# Altium footprint library PcbLib1.PcbLib: 4 footprints
Each footprint in its own frame and in the unit in brackets; x right, y up, seen from the top. Pads: shape width x height; smd on the part's side, far side on the other; paste and mask are expansions set on the pad; w line width, h text height; cw(c..) or ccw(c..) is an arc to the next point about the centre after c.
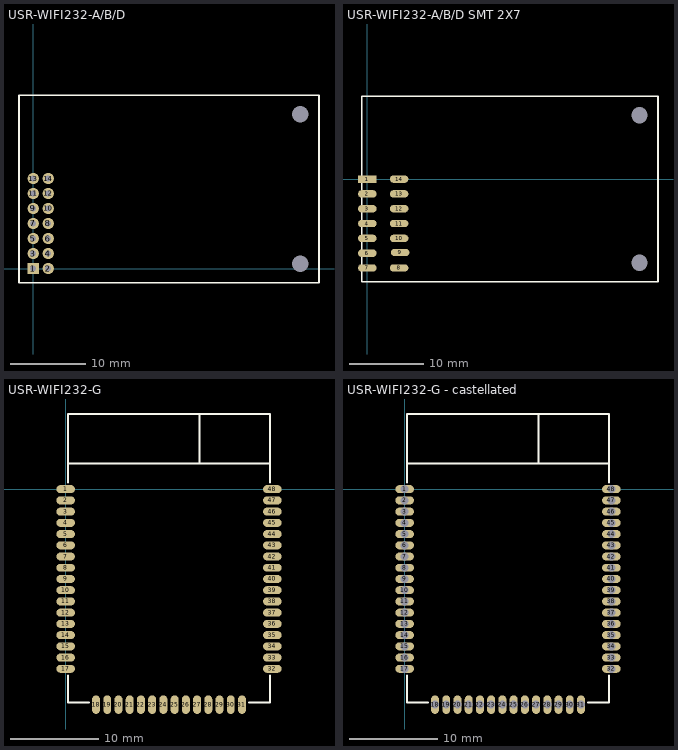
[diagram p0: the footprints below, top view; thin cyan lines are the x and y axes]

## USR-WIFI232-A/B/D [mm]
pads (16):
  round 0 hole 2.2: 0(35.6,0.65) 0(35.6,20.55)
  rect 1.5x1.5 hole 0.8: 1(0,0)
  round 1.5 hole 0.8: 2(2,0) 3(0,2) 4(2,2) 5(0,4) 6(2,4) 7(0,6) 8(2,6) 9(0,8) 10(2,8) 11(0,10) 12(2,10) 13(0,12) 14(2,12)
Top Overlay:
  lines w0.203: -1.9,-1.9 38.1,-1.9 38.1,23.1 -1.9,23.1 -1.9,-1.9

## USR-WIFI232-A/B/D SMT 2X7 [mm]
pads (16):
  round 0 hole 2.2: 0(36.743,-11.288) 0(36.743,8.612)
  rect 2.5x1 smd: 1(0,0)
  oval 2.5x1 smd: 2(0,-2) 3(0,-4) 4(0,-6) 5(0,-8) 6(0,-10) 7(0,-12) 8(4.3,-12) 9(4.445,-9.906) 10(4.3,-8) 11(4.3,-6) 12(4.3,-4) 13(4.3,-2) 14(4.3,0)
Top Overlay:
  lines w0.203: -0.757,-13.838 39.243,-13.838 39.243,11.162 -0.757,11.162 -0.757,-13.838
3D body "1-2307817-4--3DModel-STEP-1.STEP": height 4.6, standoff -0.08, extent -1.171,-12.969 5.489,1.031

## USR-WIFI232-G [mm]
pads (48):
  oval 2.1x0.9 smd: 1(0,0) 2(0,-1.27) 3(0,-2.54) 4(0,-3.81) 5(0,-5.08) 6(0,-6.35) 7(0,-7.62) 8(0,-8.89) 9(0,-10.16) 10(0,-11.43) 11(0,-12.7) 12(0,-13.97) 13(0,-15.24) 14(0,-16.51) 15(0,-17.78) 16(0,-19.05) 17(0,-20.32) 32(23.368,-20.32) 33(23.368,-19.05) 34(23.368,-17.78) 35(23.368,-16.51) 36(23.368,-15.24) 37(23.368,-13.97) 38(23.368,-12.7) 39(23.368,-11.43) 40(23.368,-10.16) 41(23.368,-8.89) 42(23.368,-7.62) 43(23.368,-6.35) 44(23.368,-5.08) 45(23.368,-3.81) 46(23.368,-2.54) 47(23.368,-1.27) 48(23.368,0)
  oval 0.9x2.1 smd: 18(3.429,-24.384) 19(4.699,-24.384) 20(5.969,-24.384) 21(7.239,-24.384) 22(8.509,-24.384) 23(9.779,-24.384) 24(11.049,-24.384) 25(12.319,-24.384) 26(13.589,-24.384) 27(14.859,-24.384) 28(16.129,-24.384) 29(17.399,-24.384) 30(18.669,-24.384) 31(19.939,-24.384)
Top Overlay:
  lines w0.203: 0.254,-21.082 0.254,-24.13 2.667,-24.13 ; 0.254,0.762 0.254,8.505 23.114,8.505 23.114,0.762 ; 0.254,2.915 22.993,2.915 ; 15.134,2.915 15.134,8.505 ; 20.701,-24.13 23.114,-24.13 23.114,-21.082

## USR-WIFI232-G - castellated [mm]
pads (48):
  oval 2.1x0.9 smd: 1(0,0) 2(0,-1.27) 3(0,-2.54) 4(0,-3.81) 5(0,-5.08) 6(0,-6.35) 7(0,-7.62) 8(0,-8.89) 9(0,-10.16) 10(0,-11.43) 11(0,-12.7) 12(0,-13.97) 13(0,-15.24) 14(0,-16.51) 15(0,-17.78) 16(0,-19.05) 17(0,-20.32) 32(23.368,-20.32) 33(23.368,-19.05) 34(23.368,-17.78) 35(23.368,-16.51) 36(23.368,-15.24) 37(23.368,-13.97) 38(23.368,-12.7) 39(23.368,-11.43) 40(23.368,-10.16) 41(23.368,-8.89) 42(23.368,-7.62) 43(23.368,-6.35) 44(23.368,-5.08) 45(23.368,-3.81) 46(23.368,-2.54) 47(23.368,-1.27) 48(23.368,0)
  oval 0.9x2.1 smd: 18(3.429,-24.384) 19(4.699,-24.384) 20(5.969,-24.384) 21(7.239,-24.384) 22(8.509,-24.384) 23(9.779,-24.384) 24(11.049,-24.384) 25(12.319,-24.384) 26(13.589,-24.384) 27(14.859,-24.384) 28(16.129,-24.384) 29(17.399,-24.384) 30(18.669,-24.384) 31(19.939,-24.384)
via 23.368,0 diameter 0.9 hole 0.9
via 23.368,0 diameter 0.9 hole 0.9
via 23.368,-1.27 diameter 0.9 hole 0.9
via 23.368,-2.54 diameter 0.9 hole 0.9
via 23.368,-3.81 diameter 0.9 hole 0.9
via 23.368,-5.08 diameter 0.9 hole 0.9
via 23.368,-6.35 diameter 0.9 hole 0.9
via 23.368,-7.62 diameter 0.9 hole 0.9
via 23.368,-8.89 diameter 0.9 hole 0.9
via 23.368,-10.16 diameter 0.9 hole 0.9
via 23.368,-11.43 diameter 0.9 hole 0.9
via 23.368,-12.7 diameter 0.9 hole 0.9
via 23.368,-13.97 diameter 0.9 hole 0.9
via 23.368,-15.24 diameter 0.9 hole 0.9
via 23.368,-16.51 diameter 0.9 hole 0.9
via 23.368,-17.78 diameter 0.9 hole 0.9
via 23.368,-19.05 diameter 0.9 hole 0.9
via 23.368,-20.32 diameter 0.9 hole 0.9
via 0,0 diameter 0.9 hole 0.9
via 0,0 diameter 0.9 hole 0.9
via 0,-1.27 diameter 0.9 hole 0.9
via 0,-2.54 diameter 0.9 hole 0.9
via 0,-3.81 diameter 0.9 hole 0.9
via 0,-5.08 diameter 0.9 hole 0.9
via 0,-6.35 diameter 0.9 hole 0.9
via 0,-7.62 diameter 0.9 hole 0.9
via 0,-8.89 diameter 0.9 hole 0.9
via 0,-10.16 diameter 0.9 hole 0.9
via 0,-11.43 diameter 0.9 hole 0.9
via 0,-12.7 diameter 0.9 hole 0.9
via 0,-13.97 diameter 0.9 hole 0.9
via 0,-15.24 diameter 0.9 hole 0.9
via 0,-16.51 diameter 0.9 hole 0.9
via 0,-17.78 diameter 0.9 hole 0.9
via 0,-19.05 diameter 0.9 hole 0.9
via 0,-20.32 diameter 0.9 hole 0.9
via 3.429,-24.384 diameter 0.9 hole 0.9
via 3.429,-24.384 diameter 0.9 hole 0.9
via 4.699,-24.384 diameter 0.9 hole 0.9
via 5.969,-24.384 diameter 0.9 hole 0.9
via 7.239,-24.384 diameter 0.9 hole 0.9
via 8.509,-24.384 diameter 0.9 hole 0.9
via 9.779,-24.384 diameter 0.9 hole 0.9
via 11.049,-24.384 diameter 0.9 hole 0.9
via 12.319,-24.384 diameter 0.9 hole 0.9
via 13.589,-24.384 diameter 0.9 hole 0.9
via 14.859,-24.384 diameter 0.9 hole 0.9
via 16.129,-24.384 diameter 0.9 hole 0.9
via 17.399,-24.384 diameter 0.9 hole 0.9
via 18.669,-24.384 diameter 0.9 hole 0.9
via 19.939,-24.384 diameter 0.9 hole 0.9
Top Overlay:
  lines w0.203: 0.254,-21.082 0.254,-24.13 2.667,-24.13 ; 0.254,0.762 0.254,8.505 23.114,8.505 23.114,0.762 ; 0.254,2.915 22.993,2.915 ; 15.134,2.915 15.134,8.505 ; 20.701,-24.13 23.114,-24.13 23.114,-21.082